# Altium footprint library TSSOP-38_0.PcbLib: 1 footprints
Each footprint in its own frame and in the unit in brackets; x right, y up, seen from the top. Pads: shape width x height; smd on the part's side, far side on the other; paste and mask are expansions set on the pad; w line width, h text height; cw(c..) or ccw(c..) is an arc to the next point about the centre after c.
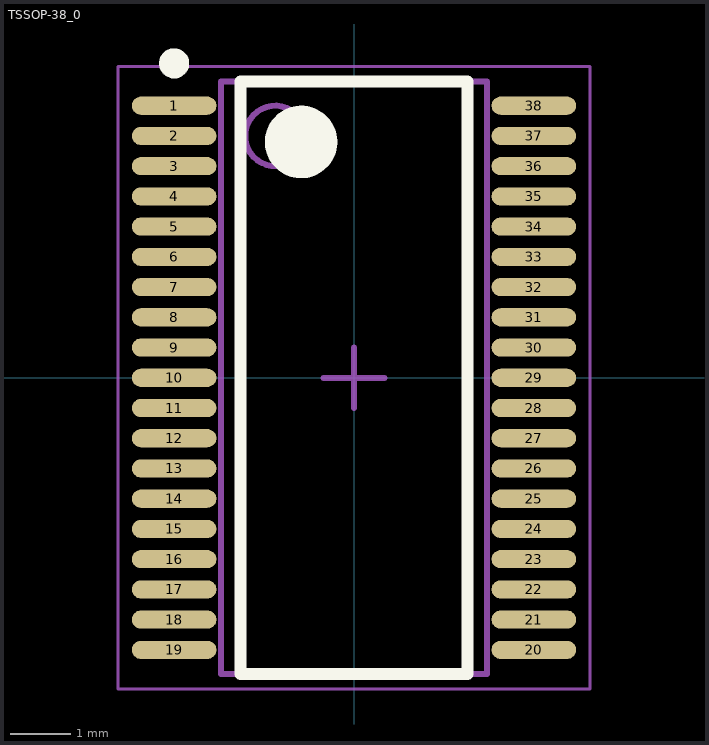
[diagram p0: the footprint, top view; thin cyan lines are the x and y axes]

## TSSOP-38_0 [mm] "TSSOP, 38-Leads, Body 9.70x4.35mm, Pitch 0.50mm, IPC Medium Density"
height 1.2
pads (38):
  oval 1.4x0.3 smd: 1(-2.975,4.5) 2(-2.975,4) 3(-2.975,3.5) 4(-2.975,3) 5(-2.975,2.5) 6(-2.975,2) 7(-2.975,1.5) 8(-2.975,1) 9(-2.975,0.5) 10(-2.975,0) 11(-2.975,-0.5) 12(-2.975,-1) 13(-2.975,-1.5) 14(-2.975,-2) 15(-2.975,-2.5) 16(-2.975,-3) 17(-2.975,-3.5) 18(-2.975,-4) 19(-2.975,-4.5) 20(2.975,-4.5) 21(2.975,-4) 22(2.975,-3.5) 23(2.975,-3) 24(2.975,-2.5) 25(2.975,-2) 26(2.975,-1.5) 27(2.975,-1) 28(2.975,-0.5) 29(2.975,0) 30(2.975,0.5) 31(2.975,1) 32(2.975,1.5) 33(2.975,2) 34(2.975,2.5) 35(2.975,3) 36(2.975,3.5) 37(2.975,4) 38(2.975,4.5)
Top Overlay:
  circle w0.6: c-0.875,3.9 r0.3
  circle w0.25: c-2.975,5.2 r0.125
  lines w0.2: -1.875,-4.9 1.875,-4.9 1.875,4.9 -1.875,4.9 -1.875,-4.9
Mechanical 13:
  circle w0.1: c-1.3,4 r0.5
  lines w0.1: -2.2,-4.9 2.2,-4.9 2.2,4.9 -2.2,4.9 -2.2,-4.9
Mechanical 15:
  lines w0.05: -3.9,-5.15 3.9,-5.15 3.9,5.15 -3.9,5.15 -3.9,-5.15
  lines w0.1: -0.5,0 0.5,0 ; 0,-0.5 0,0.5
3D body "TSSOP-38.stp": height 1.11, standoff 0.01, extent -3.215,-5 3.215,5